# Altium schematic symbol library MIC5504-2.5YM5-TR.SchLib: 1 symbol
Pins are listed as number, name and electrical type; pins without a type are passive.

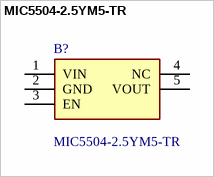
[diagram p0: symbol MIC5504-2.5YM5-TR]

## MIC5504-2.5YM5-TR
designator B?
LDO Voltage Regulators Single 300mA LDO with Enable Pull-Down & Auto Discharge; Manufacturer_Name: Microchip; Geometry.Height: 1.3mm; Mouser Part Number: 998-MIC5504-2.5YM5TR; Mouser Price/Stock: https://www.mouser.co.uk/ProductDetail/Microchip-Technology/MIC5504-2.5YM5-TR?qs=U6T8BxXiZAXfKTfMymzCuw%3D%3D; Manufacturer_Part_Number: MIC5504-2.5YM5-TR; Datasheet Link: http://www.microchip.com/mymicrochip/filehandler.aspx?ddocname=en580292
footprint SOT95P280X130-5N
pins: 1 VIN, 2 GND, 3 EN, 4 NC, 5 VOUT